# EAGLE library part CUSTOM_MOTORDRIVER (library Custom_MotorDriver)
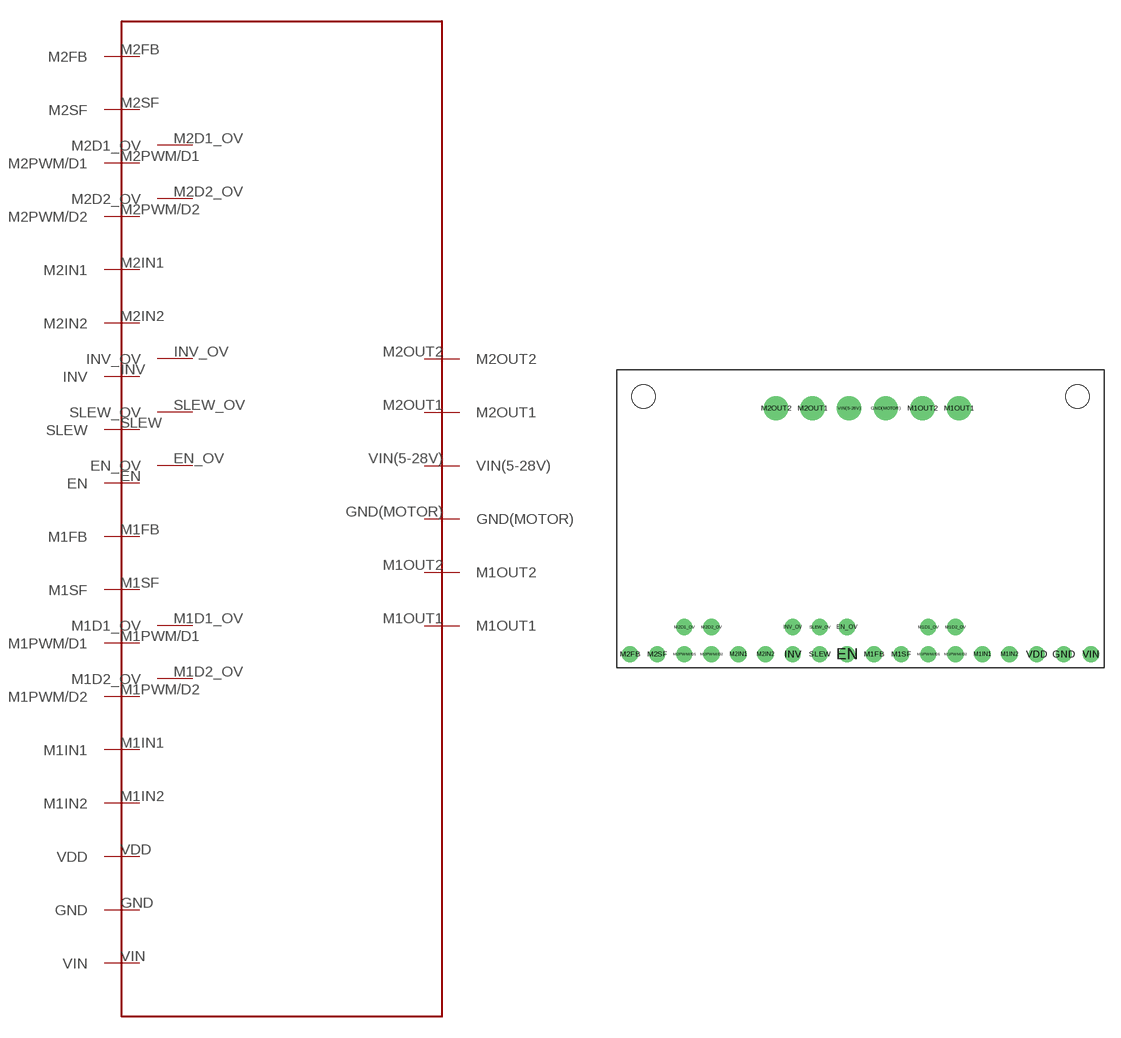
[diagram p0: symbol with the pads of CUSTOM_MOTORDRIVER; footprint CUSTOM_MOTORDRIVER]

Designator prefix -

## CUSTOM_MOTORDRIVER  [CUSTOM_MOTORDRIVER]
EN  EN
EN_OV  EN_OV
GND  GND
GND(MOTOR)  GND(MOTOR)
INV  INV
INV_OV  INV_OV
M1D1_OV  M1D1_OV
M1D2_OV  M1D2_OV
M1FB  M1FB
M1IN1  M1IN1
M1IN2  M1IN2
M1OUT1  M1OUT1
M1OUT2  M1OUT2
M1PWM/D1  M1PWM/D1
M1PWM/D2  M1PWM/D2
M1SF  M1SF
M2D1_OV  M2D1_OV
M2D2_OV  M2D2_OV
M2FB  M2FB
M2IN1  M2IN1
M2IN2  M2IN2
M2OUT1  M2OUT1
M2OUT2  M2OUT2
M2PWM/D1  M2PWM/D1
M2PWM/D2  M2PWM/D2
M2SF  M2SF
SLEW  SLEW
SLEW_OV  SLEW_OV
VDD  VDD
VIN  VIN
VIN(5-28V)  VIN(5-28V)

## Footprint CUSTOM_MOTORDRIVER (pad centres in mm)
drill 1.016: EN 21.59,1.27; EN_OV 21.59,3.81; GND 41.91,1.27; INV 16.51,1.27; INV_OV 16.51,3.81; M1D1_OV 29.21,3.81; M1D2_OV 31.75,3.81; M1FB 24.13,1.27; M1IN1 34.29,1.27; M1IN2 36.83,1.27; M1PWM/D1 29.21,1.27; M1PWM/D2 31.75,1.27; M1SF 26.67,1.27; M2D1_OV 6.35,3.81; M2D2_OV 8.89,3.81; M2FB 1.27,1.27; M2IN1 11.43,1.27; M2IN2 13.97,1.27; M2PWM/D1 6.35,1.27; M2PWM/D2 8.89,1.27; M2SF 3.81,1.27; SLEW 19.05,1.27; SLEW_OV 19.05,3.81; VDD 39.37,1.27; VIN 44.45,1.27
drill 1.524: GND(MOTOR) 25.222,24.308; M1OUT1 32.08,24.308; M1OUT2 28.651,24.308; M2OUT1 18.364,24.308; M2OUT2 14.935,24.308; VIN(5-28V) 21.793,24.308
hole 2.184 at 2.54,25.4
hole 2.184 at 43.18,25.4